# Altium integrated library BRK7360.IntLib: 20 symbols
Pins are listed as number, name and electrical type; pins without a type are passive.

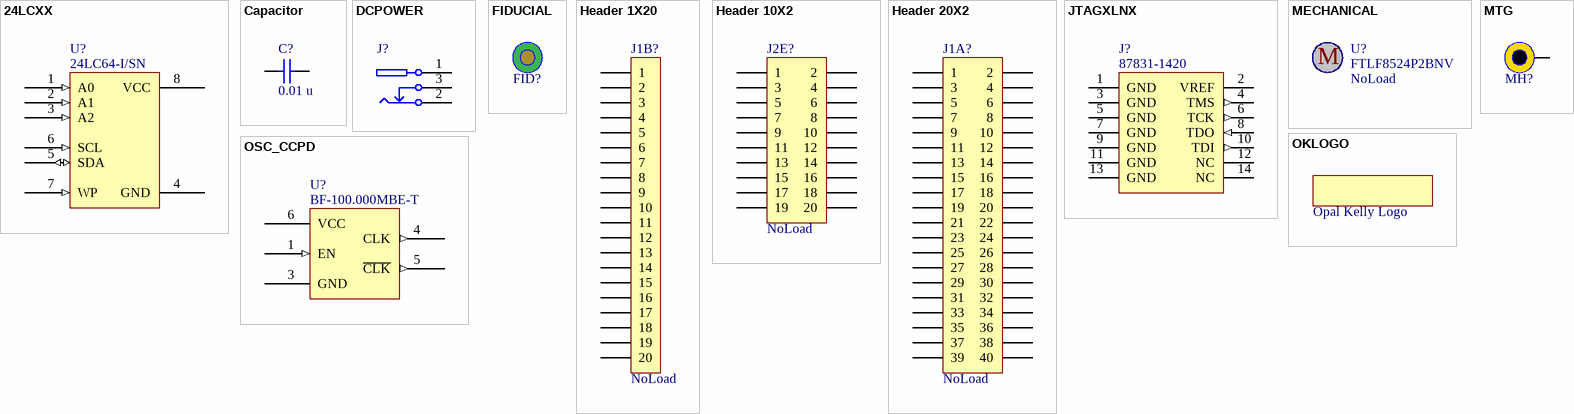
[diagram p0: symbols 24LCXX to OSC_CCPD]

## 24LCXX
designator U?, comment 24LC64-I/SN
EEPROM; Manufacturer: Microchip; partnumber: 000004; Description 2: I2C, 8 kByte; Manufacturer_PN: 24LC64-I/SN; updated_on: 1/24/2015 12:29:45 PM
footprint SO-G8
pins: 1 A0 (in), 2 A1 (in), 3 A2 (in), 4 GND (power), 5 SDA (io), 6 SCL (in), 7 WP (in), 8 VCC (power)

## Capacitor
designator C?, comment value 0.01 u  (hidden comment: C0402C103K4RACTU)
Ceramic Capacitor; Manufacturer: Kemet; partnumber: 000295; Description 2: SM-0402, 10%, 6.3V, X5R; ValueFloat: 1E-8; Tolerance (%): 10; Manufacturer_PN: C0402C103K4RACTU; updated_on: 2/12/2015 9:26:19 AM
footprint CAPC1005N
pins: 1, 2

## DCPOWER
designator J?, comment PJ-102AH  (value not drawn)
DC power connector - high current; Manufacturer: CUI Inc.; partnumber: 000356; Description 2: 2.1mm / 5.5mm; Manufacturer_PN: PJ-102AH; updated_on: 2/12/2015 4:53:15 PM
footprint CUI-PJ102A
pins: 1, 2, 3

## FIDUCIAL
designator FID?  (value not drawn)
PCB fiducial
footprint FID1MM/2MM-SS (Fiducial 1mm copper, 2mm soldermask, single-side)

## Header 1X20
designator J1B?, comment Header, 20-Pin, Single Row  (value not drawn)
2mm header, 20x1, thru-hole; PartNumber: 001334; Manufacturer: 3M; Manufacturer_PN: 951120-8622-AR; x_lifecycle_status: Production; updated_on: 8/19/2015 3:11:41 PM; NoLoad: NoLoad
footprint HDR1X14 (100 mil 1x14 Header)
footprint HDR1X20-2MM
pins: 1, 2, 3, 4, 5, 6, 7, 8, 9, 10, 11, 12, 13, 14, 15, 16, 17, 18, 19, 20

## Header 10X2
designator J2E?, comment 0877582016  (value not drawn)
2mm header, 10x2, thru-hole; Manufacturer: Molex; partnumber: 001338; Manufacturer_PN: 0877582016; updated_on: 8/25/2015 11:37:01 AM; NoLoad: NoLoad
footprint HDR2X10-2MM
pins: 1, 2, 3, 4, 5, 6, 7, 8, 9, 10, 11, 12, 13, 14, 15, 16, 17, 18, 19, 20

## Header 20X2
designator J1A?, comment 0877584016  (value not drawn)
2mm header, 20x2, thru-hole; Manufacturer: Molex; partnumber: 000583; Manufacturer_PN: 0877584016; updated_on: 1/24/2015 12:30:40 PM; NoLoad: NoLoad
footprint HDR2X20-2MM
pins: 1, 2, 3, 4, 5, 6, 7, 8, 9, 10, 11, 12, 13, 14, 15, 16, 17, 18, 19, 20, 21, 22, 23, 24, 25, 26, 27, 28, 29, 30, 31, 32, 33, 34, 35, 36, 37, 38, 39, 40

## JTAGXLNX
designator J?, comment 87831-1420
2mm header, shrouded; Manufacturer: Molex; partnumber: 000541; Description 2: Dual-row, 14-pos, Xilinx JTAG compatible; Manufacturer_PN: 87831-1420; updated_on: 7/22/2015 1:38:47 PM
footprint XILINX-JTAG
footprint HDR2X7-2MM
pins: 1 GND (power), 2 VREF (power), 3 GND (power), 4 TMS (out), 5 GND (power), 6 TCK (out), 7 GND (power), 8 TDO (in), 9 GND (power), 10 TDI (out), 11 GND (power), 12 NC, 13 GND (power), 14 NC

## MECHANICAL
designator U?, comment FTLF8524P2BNV  (mechanical)
SFP Transceiver; Manufacturer: Finisar; partnumber: 000985; Description 2: 4.25Gb/s, Narrow Extraction Bail, Rate Selectable; Manufacturer_PN: FTLF8524P2BNV; updated_on: 8/14/2013 11:58:28 AM; NoLoad: NoLoad
text: M

## MTG
designator MH?  (value not drawn)
Mounting hole
footprint MTG-2.7/5.0-PTH (Mounting hole, 2.7mm ID, 5.0mm OD, plated)
pins: 1

## OKLOGO
designator *?, comment Opal Kelly Logo
footprint okLogo-23x5 (Opal Kelly silkscreen logo (23mm x 5mm))
footprint okLogo-30x6 (Opal Kelly silkscreen logo (30mm x 6mm))
footprint okLogo-60x13 (Opal Kelly silkscreen logo (60mm x 13mm))

## OSC_CCPD
designator U?, comment BF-100.000MBE-T
100 MHz LVDS oscillator; Manufacturer: TXC Corporation; partnumber: 000846; Description 2: 3.3v, 50ppm, industrial temp, 7mm x 5mm; Manufacturer_PN: BF-100.000MBE-T; updated_on: 10/13/2015 2:32:21 PM
footprint OSC_SMD6_5x7
pins: 1 EN (in), 3 GND (power), 4 CLK (out), 5 ~{CLK} (out), 6 VCC (power)

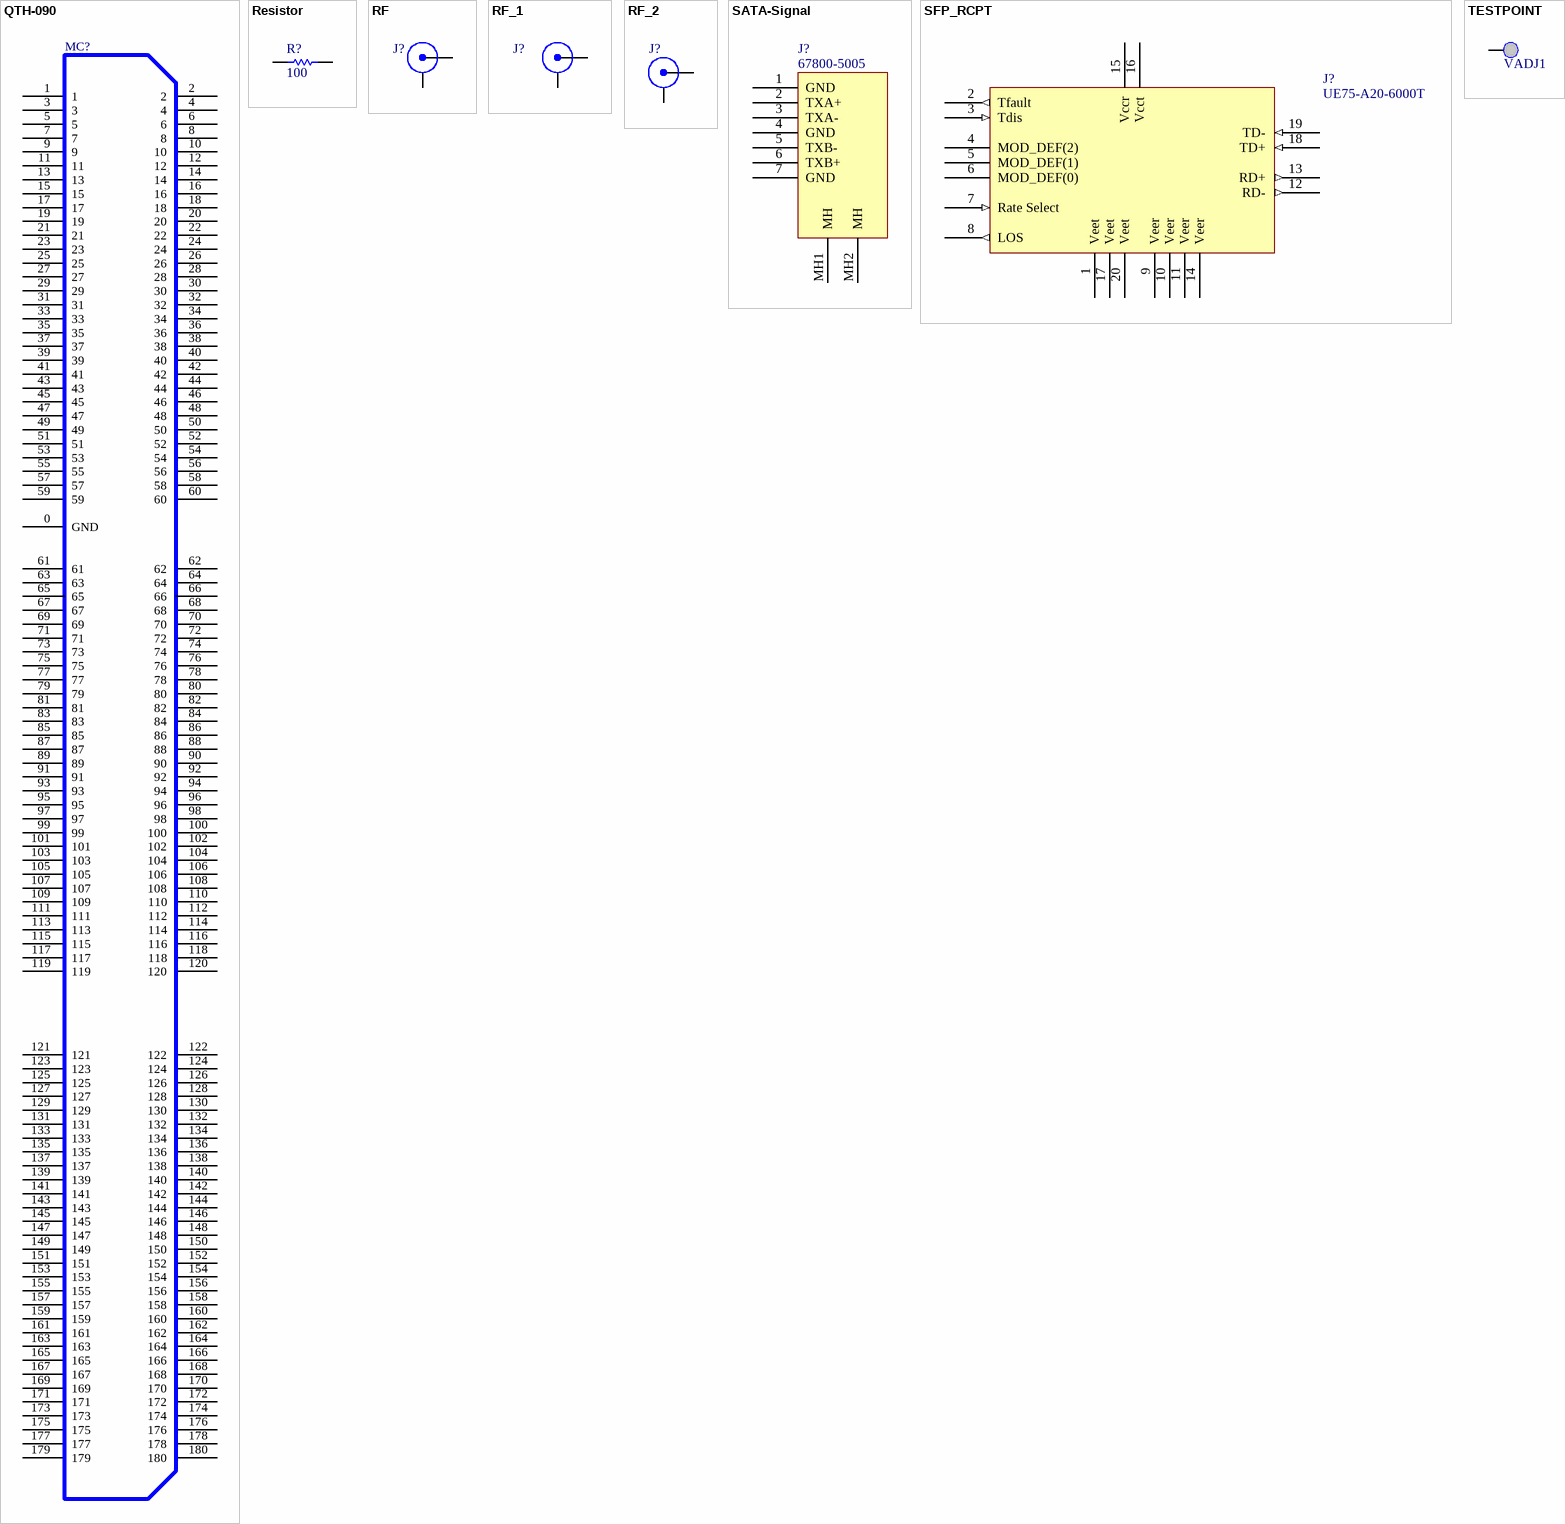
[diagram p1: symbols QTH-090 to TESTPOINT]

## QTH-090
designator MC?, comment QTH-090-01-F-D-A  (value not drawn)
0.5mm hi-speed, high-density header (Female); Manufacturer: Samtec; partnumber: 000876; Description 2: 180-pin, ground plane in middle; Manufacturer_PN: QTH-090-01-F-D-A; updated_on: 3/23/2015 1:16:30 PM
footprint QTH-090-01-X-D
pins: 0 GND (power), 1, 2, 3, 4, 5, 6, 7, 8, 9, 10, 11, 12, 13, 14, 15, 16, 17, 18, 19, 20, 21, 22, 23, 24, 25, 26, 27, 28, 29, 30, 31, 32, 33, 34, 35, 36, 37, 38, 39, 40, 41, 42, 43, 44, 45, 46, 47, 48, 49, 50, 51, 52, 53, 54, 55, 56, 57, 58, 59, 60, 61, 62, 63, 64, 65, 66, 67, 68, 69, 70, 71, 72, 73, 74, 75, 76, 77, 78, 79, 80, 81, 82, 83, 84, 85, 86, 87, 88, 89, 90, 91, 92, 93, 94, 95, 96, 97, 98, 99, 100, 101, 102, 103, 104, 105, 106, 107, 108, 109, 110, 111, 112, 113, 114, 115, 116, 117, 118, 119, 120, 121, 122, 123, 124, 125, 126, 127, 128, 129, 130, 131, 132, 133, 134, 135, 136, 137, 138, 139, 140, 141, 142, 143, 144, 145, 146, 147, 148, 149, 150, 151, 152, 153, 154, 155, 156, 157, 158, 159, 160, 161, 162, 163, 164, 165, 166, 167, 168, 169, 170, 171, 172, 173, 174, 175, 176, 177, 178, 179, 180
1 alternate drawing of the same symbol

## Resistor
designator R?, comment value 100  (hidden comment: CRCW0603100RFKEA)
Thick-film resistor; Manufacturer: Vishay; partnumber: 000789; Description 2: SM-0603, 1%, 1/10W; Tolerance (%): 1; Manufacturer_PN: CRCW0603100RFKEA; ValueFloat: 100; updated_on: 1/24/2015 12:31:07 PM
footprint RESC1608N
pins: 1, 2

## RF
designator J?, comment TXP0  (value not drawn)
Straight SMA PCB Mount; Manufacturer: Amphenol; Manufacturer_PN: 901-144-8RFX; partnumber: 000974; updated_on: 1/24/2015 12:31:32 PM
footprint SMA (PCB-mount SMA connector)
pins: 1 SIGNAL, 2 GND

## RF_1
designator J?, comment 901-144-8RFX  (value not drawn)
Straight SMA PCB Mount; Manufacturer: Amphenol; partnumber: 000974; Manufacturer_PN: 901-144-8RFX; updated_on: 1/24/2015 12:31:32 PM
footprint SMA
pins: 1 SIGNAL, 2 GND

## RF_2
designator J?, comment TXP1  (value not drawn)
U.FL surface-mount coaxial connector; Manufacturer: Hirose; Manufacturer_PN: U.FL-R-SMT-1; partnumber: 001335; x_lifecycle_status: Production; updated_on: 8/20/2015 5:25:45 PM
footprint UFL-R-SMT-1
pins: 1 SIGNAL, 2 GND

## SATA-Signal
designator J?, comment 67800-5005
SATA 7-pin receptacle; Manufacturer: Molex; partnumber: 000988; Description 2: Vertical Mount, SMD, Latch, 15u Gold; x_lifecycle_status: Production; Manufacturer_PN: 67800-5005; updated_on: 3/13/2015 8:50:14 AM
footprint MOLEX-67800-5005
pins: 1 GND, 2 TXA+, 3 TXA-, 4 GND, 5 TXB-, 6 TXB+, 7 GND, MH1 MH, MH2 MH

## SFP_RCPT
designator J?, comment UE75-A20-6000T
SFP 20-POS Recepticle; Manufacturer: Amphenol; partnumber: 000986; Description 2: Right Angle, SMD, 15AU Gold; Manufacturer_PN: UE75-A20-6000T; updated_on: 1/24/2015 12:31:33 PM
footprint SFP_RCPT_20
footprint SFP_RCPT_20_CAGE
pins: 1 Veet (power), 2 Tfault (out), 3 Tdis (in), 4 MOD_DEF(2), 5 MOD_DEF(1), 6 MOD_DEF(0), 7 Rate Select (in), 8 LOS (out), 9 Veer (power), 10 Veer (power), 11 Veer (power), 12 RD- (out), 13 RD+ (out), 14 Veer (power), 15 Vccr (power), 16 Vcct (power), 17 Veet (power), 18 TD+ (in), 19 TD- (in), 20 Veet (power)

## TESTPOINT
designator TP?, comment VADJ1
Testpoint; Manufacturer: Keystone Electronics; Manufacturer_PN: 5007; partnumber: 000265; Description 2: 0.063 in. diameter, compact, White; updated_on: 1/24/2015 12:30:04 PM; NoLoad: NoLoad
footprint TP_MED (Testpoint - medium sized)
footprint TP_SMALL
footprint TP_SMD20
footprint TP_SMD40
pins: 1 PIN